# EAGLE library part OLIMEX_IC_RCLAMP0524P (library A10-A20-OLINUXINO-MICRO-4GB_Rev_D)
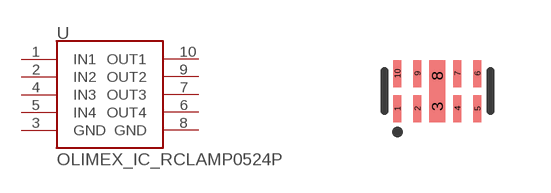
[diagram p14: symbol with the pads of OLIMEX_IC_SLP2510P8; footprint OLIMEX_IC_SLP2510P8]

Designator prefix U

## OLIMEX_IC_RCLAMP0524P  [OLIMEX_IC_SLP2510P8]
1  IN1
2  IN2
3  GND
4  IN3
5  IN4
6  OUT4
7  OUT3
8  GND
9  OUT2
10  OUT1

## Footprint OLIMEX_IC_SLP2510P8 (pad centres in mm)
smd 0.2 x 0.675: 1 -1,-0.438; 2 -0.5,-0.438; 4 0.5,-0.438; 5 1,-0.438; 6 1,0.437; 7 0.5,0.437; 9 -0.5,0.437; 10 -1,0.437
smd 0.4 x 0.775: 3 0,-0.388; 8 0,0.387